# Altium schematic symbol library CWF1612A-R10K.SchLib: 1 symbol
Pins are listed as number, name and electrical type; pins without a type are passive.

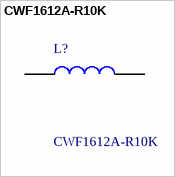
[diagram p0: symbol CWF1612A-R10K]

## CWF1612A-R10K
designator L?
Ind,1.65x1.15x1.05mm,0.1uH+/-10%,1.5A,; Manufacturer_Name: Bourns; Geometry.Height: 1.15mm; Mouser Part Number: *; Mouser Price/Stock: *; Manufacturer_Part_Number: CWF1612A-R10K; Datasheet Link: https://www.bourns.com/docs/Product-Datasheets/CWF1612A.pdf
footprint CWF1612A100J
pins: 1, 2